# Altium footprint library SoilSensor.PcbLib: 9 footprints
Each footprint in its own frame and in the unit in brackets; x right, y up, seen from the top. Pads: shape width x height; smd on the part's side, far side on the other; paste and mask are expansions set on the pad; w line width, h text height; cw(c..) or ccw(c..) is an arc to the next point about the centre after c.
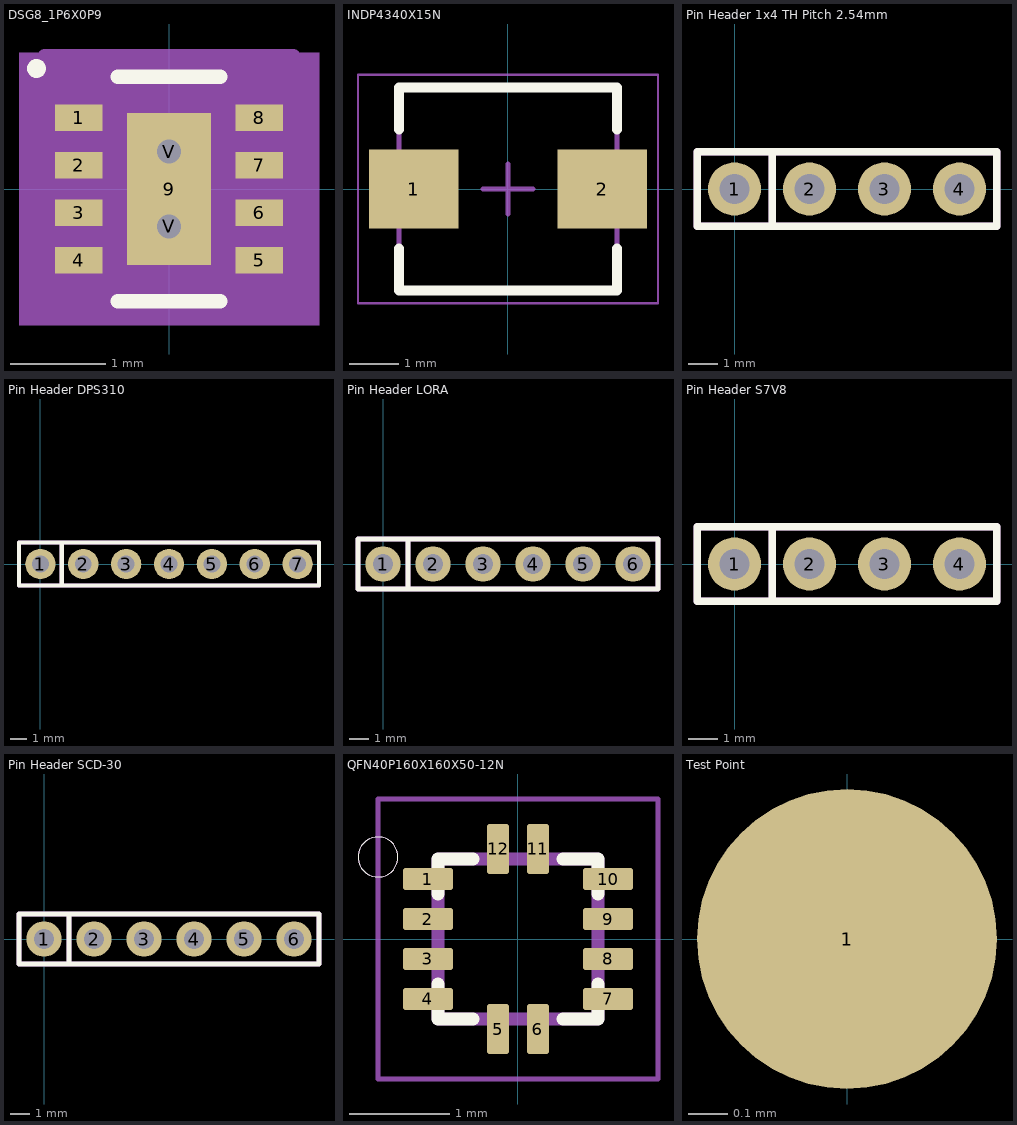
[diagram p0: the footprints below, top view; thin cyan lines are the x and y axes]

## DSG8_1P6X0P9 [mm]
pads (11):
  rect 0.5x0.28 smd paste-0.14 mask+0: 1(-0.95,0.75) 2(-0.95,0.25) 3(-0.95,-0.25) 4(-0.95,-0.75) 5(0.95,-0.75) 6(0.95,-0.25) 7(0.95,0.25) 8(0.95,0.75)
  rect 0.889x1.6 smd paste-0.787 mask-0.787: 9(0,0)
  round 0.508 hole 0.254: V(0,-0.394) V(0,0.394)
Top Layer:
  region: 0,-0.8
  region: 0,0.8
Top Overlay:
  circle w0.1: c-1.397,1.27 r0.05
  lines w0.152: -0.539,-1.181 0.539,-1.181 ; -0.539,1.181 0.539,1.181
Top Paste:
  region: 0.37,-0.494 0.241,-0.494 0.1,-0.635 0.1,-0.725 0.37,-0.725
  region: 0.37,0.294 0.241,0.294 0.1,0.152 0.1,-0.152 0.241,-0.294 0.37,-0.294
  region: 0.37,0.725 0.1,0.725 0.1,0.635 0.241,0.494 0.37,0.494
  region: -0.241,-0.494 -0.37,-0.494 -0.37,-0.725 -0.1,-0.725 -0.1,-0.635
  region: -0.241,0.294 -0.37,0.294 -0.37,-0.294 -0.241,-0.294 -0.1,-0.152 -0.1,0.152
  region: -0.1,0.725 -0.37,0.725 -0.37,0.494 -0.241,0.494 -0.1,0.635
Top Solder:
  region: 0,-0.8
  region: 0,0.8
  region: 0.2,-0.864 0.2,0.864 0.508,0.864 0.508,-0.864
  region: -0.508,-0.864 -0.508,0.864 -0.2,0.864 -0.2,-0.864
  region: -0.508,-0.864 -0.508,-0.594 0.508,-0.594 0.508,-0.864
  region: -0.508,-0.194 -0.508,0.194 0.508,0.194 0.508,-0.194
  region: -0.508,0.594 -0.508,0.864 0.508,0.864 0.508,0.594
Mechanical 5:
  region: 1.581,-1.435 -1.581,-1.435 -1.581,1.435 1.581,1.435
Mechanical 13:
  lines w0: -0.305,1.054 ccw(c0,1.054) 0.305,1.054
  lines w0.025: -1.054,-1.054 -1.054,1.054 1.054,1.054 1.054,-1.054 -1.054,-1.054
Mechanical 15:
  region: -1.308,-1.144 -1.454,-1.144 -1.454,1.144 -1.308,1.144 -1.308,1.398 1.308,1.398 1.308,1.144 1.454,1.144 1.454,-1.144 1.308,-1.144 1.308,-1.308 -1.308,-1.308
  lines w0.152: -1.454,-1.144 -1.308,-1.144 -1.308,-1.308 1.308,-1.308 1.308,-1.144 1.454,-1.144 1.454,1.144 1.308,1.144 1.308,1.398 -1.308,1.398 -1.308,1.144 -1.454,1.144 -1.454,-1.144
3D body "DSG8_1P6X0P9.step": height 0.54, standoff 0, extent -1.054,-1.054 1.054,1.054

## INDP4340X15N [mm] "Precision Wire Wound Inductor, 2-Leads, Body 4.30x4.00mm, IPC Medium Density"
height 1.5
pads (2):
  rect 1.8x1.6 smd: 1(-1.9,0) 2(1.9,0)
Top Overlay:
  lines w0.2: -2.2,-1.2 -2.2,-2.05 2.2,-2.05 2.2,-1.2 ; -2.2,1.2 -2.2,2.05 2.2,2.05 2.2,1.2
Mechanical 13:
  lines w0.1: -2.2,-2.05 -2.2,2.05 2.2,2.05 2.2,-2.05 -2.2,-2.05
Mechanical 15:
  lines w0.05: -3.025,-2.3 -3.025,2.3 3.025,2.3 3.025,-2.3 -3.025,-2.3
  lines w0.1: -0.5,0 0.5,0 ; 0,-0.5 0,0.5
3D body "INDP4340X15N.step": height 1.6, standoff 0, extent -2.25,-2 2.25,2

## Pin Header 1x4 TH Pitch 2.54mm [mm] "PinHeader 1x4 TH Pitch 2.54mm"
height 9.5
pads (4):
  round 1.8 hole 1: 1(0,0) 2(2.54,0) 3(5.08,0) 4(7.62,0)
Top Overlay:
  lines w0.254: 1.27,-1.27 1.27,1.27 -1.27,1.27 ; -1.27,1.27 -1.27,-1.27 8.89,-1.27 8.89,1.27 -1.27,1.27
Mechanical 3:
  lines w0.254: 1.27,-1.27 1.27,1.27 -1.27,1.27 ; -1.27,1.27 -1.27,-1.27 8.89,-1.27 8.89,1.27 -1.27,1.27
3D body "Pin Header 1x4 TH Pitch 2.54mm.stp": height 9.5, standoff -3.2, extent -1.27,-1.27 8.89,1.27

## Pin Header DPS310 [mm] "PinHeader 1x7 TH Pitch 2.54mm"
height 9.5
pads (7):
  round 1.8 hole 1: 1(0,0) 2(2.54,0) 3(5.08,0) 4(7.62,0) 5(10.16,0) 6(12.7,0) 7(15.24,0)
Top Overlay:
  lines w0.254: 1.27,-1.27 1.27,1.27 -1.27,1.27 ; -1.27,1.27 16.51,1.27 16.51,-1.27 -1.27,-1.27 -1.27,1.27
Mechanical 3:
  lines w0.254: 1.27,-1.27 1.27,1.27 -1.27,1.27 ; -1.27,1.27 16.51,1.27 16.51,-1.27 -1.27,-1.27 -1.27,1.27
3D body "Pin Header 1x7 TH Pitch 2.54mm.stp": height 6.1, standoff -6.6, extent -1.27,-1.27 16.51,1.27
3D body "4494-DPS310-Sensor.step": height 7.53, standoff 3, extent -5.08,-2.56 20.32,15.22

## Pin Header LORA [mm] "PinHeader 1x6 TH Pitch 2.54mm"
height 9.5
pads (6):
  round 1.8 hole 1: 1(0,0) 2(2.54,0) 3(5.08,0) 4(7.62,0) 5(10.16,0) 6(12.7,0)
Top Overlay:
  lines w0.254: 1.27,-1.27 1.27,1.27 -1.27,1.27 ; -1.27,1.27 -1.27,-1.27 13.97,-1.27 13.97,1.27 -1.27,1.27
Mechanical 3:
  lines w0.254: 1.27,-1.27 1.27,1.27 -1.27,1.27 ; -1.27,1.27 -1.27,-1.27 13.97,-1.27 13.97,1.27 -1.27,1.27
3D body "Pin Header 1x6 TH Pitch 2.54mm.stp": height 9.5, standoff -3.2, extent -1.27,-1.27 13.97,1.27

## Pin Header S7V8 [mm] "PinHeader 1x4 TH Pitch 2.54mm"
height 9.5
pads (4):
  round 1.8 hole 1: 1(0,0) 2(2.54,0) 3(5.08,0) 4(7.62,0)
Top Overlay:
  lines w0.254: 1.27,-1.27 1.27,1.27 -1.27,1.27 ; -1.27,1.27 8.89,1.27 8.89,-1.27 -1.27,-1.27 -1.27,1.27
Mechanical 3:
  lines w0.254: 1.27,-1.27 1.27,1.27 -1.27,1.27 ; -1.27,1.27 8.89,1.27 8.89,-1.27 -1.27,-1.27 -1.27,1.27
3D body "Pin Header 1x4 TH Pitch 2.54mm.stp": height 6.02, standoff -6.68, extent -1.27,-1.27 8.89,1.27
3D body "pololu-adjustable-step-up_step-down-voltage-regulator-s7v8a.step": height 5.61, standoff 2.79, extent -1.905,-1.27 9.525,15.24

## Pin Header SCD-30 [mm] "PinHeader 1x6 TH Pitch 2.54mm"
height 9.5
pads (6):
  round 1.8 hole 1: 1(0,0) 2(2.54,0) 3(5.08,0) 4(7.62,0) 5(10.16,0) 6(12.7,0)
Top Overlay:
  lines w0.254: 1.27,-1.27 1.27,1.27 -1.27,1.27 ; -1.27,1.27 -1.27,-1.27 13.97,-1.27 13.97,1.27 -1.27,1.27
Mechanical 3:
  lines w0.254: 1.27,-1.27 1.27,1.27 -1.27,1.27 ; -1.27,1.27 -1.27,-1.27 13.97,-1.27 13.97,1.27 -1.27,1.27
3D body "4867 Adafruit SCD30.step": height 11.57, standoff 0.07, extent -6.35,-2.54 19.05,48.26
3D body "Pin Header 1x6 TH Pitch 2.54mm.stp": height 6.1, standoff -6.6, extent -1.27,-1.27 13.97,1.27

## QFN40P160X160X50-12N [mm]
pads (12):
  rrect25% 0.5x0.22 smd: 1(-0.9,0.6) 2(-0.9,0.2) 3(-0.9,-0.2) 4(-0.9,-0.6) 7(0.9,-0.6) 8(0.9,-0.2) 9(0.9,0.2) 10(0.9,0.6)
  rrect25% 0.22x0.5 smd: 5(-0.2,-0.9) 6(0.2,-0.9) 11(0.2,0.9) 12(-0.2,0.9)
Top Overlay:
  circle w0: c-1.4,0.82 r0.2
  lines w0.127: -0.8,-0.45 -0.8,-0.8 -0.45,-0.8 ; -0.8,0.45 -0.8,0.8 -0.45,0.8 ; 0.45,-0.8 0.8,-0.8 0.8,-0.45 ; 0.45,0.8 0.8,0.8 0.8,0.45
Mechanical 13:
  circle w0: c-1.4,0.82 r0.2
  lines w0.127: -0.8,-0.8 -0.8,0.8 0.8,0.8 0.8,-0.8 -0.8,-0.8
Mechanical 15:
  lines w0.05: -1.4,-1.4 -1.4,1.4 1.4,1.4 1.4,-1.4 -1.4,-1.4

## Test Point [mil] "SMD Test Point"
pads (1):
  round 30 smd: 1(0,0)